# Altium schematic symbol library Schlib1.SchLib: 1 symbol
Pins are listed as number, name and electrical type; pins without a type are passive.

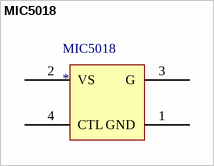
[diagram p0: symbol MIC5018]

## MIC5018
designator MIC5018
pins: 1 GND, 2 VS, 3 G, 4 CTL